# EAGLE library part FH12-40S-0.5SH (library Mechanical)
Hirose FH12 Series 40 Pin horizontal insert 0.5mm pitch bottom contact connector
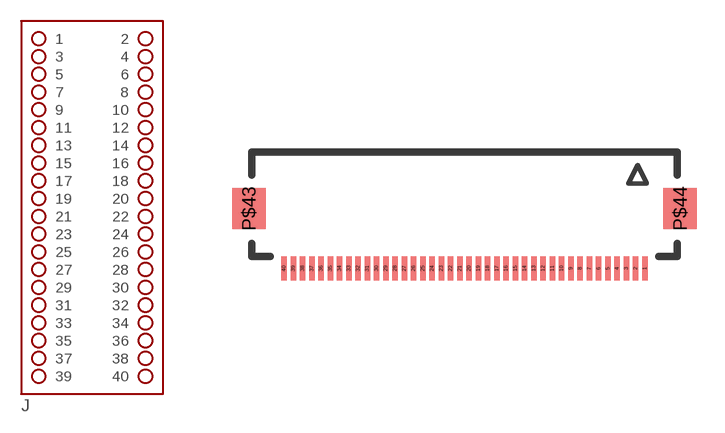
[diagram p62: symbol with the pads of FH12-40S-0.5SH; footprint FH12-40S-0.5SH]

Designator prefix J

## FH12-40S-0.5SH  [FH12-40S-0.5SH]
1  1  pas
2  2  pas
3  3  pas
4  4  pas
5  5  pas
6  6  pas
7  7  pas
8  8  pas
9  9  pas
10  10  pas
11  11  pas
12  12  pas
13  13  pas
14  14  pas
15  15  pas
16  16  pas
17  17  pas
18  18  pas
19  19  pas
20  20  pas
21  21  pas
22  22  pas
23  23  pas
24  24  pas
25  25  pas
26  26  pas
27  27  pas
28  28  pas
29  29  pas
30  30  pas
31  31  pas
32  32  pas
33  33  pas
34  34  pas
35  35  pas
36  36  pas
37  37  pas
38  38  pas
39  39  pas
40  40  pas

## Footprint FH12-40S-0.5SH (pad centres in mm)
Hirose FH12-40S-0.5SH 0.5MM pitch bottom contact type with 0.18mm FPC end thickness. Horizontal mount.
smd 0.3 x 1.3: 1 19.5,0; 2 19,0; 3 18.5,0; 4 18,0; 5 17.5,0; 6 17,0; 7 16.5,0; 8 16,0; 9 15.5,0; 10 15,0; 11 14.5,0; 12 14,0; 13 13.5,0; 14 13,0; 15 12.5,0; 16 12,0; 17 11.5,0; 18 11,0; 19 10.5,0; 20 10,0; 21 9.5,0; 22 9,0; 23 8.5,0; 24 8,0; 25 7.5,0; 26 7,0; 27 6.5,0; 28 6,0; 29 5.5,0; 30 5,0; 31 4.5,0; 32 4,0; 33 3.5,0; 34 3,0; 35 2.5,0; 36 2,0; 37 1.5,0; 38 1,0; 39 0.5,0; 40 0,0
smd 1.8 x 2.2: P$43 -1.9,3.25; P$44 21.4,3.25